# Altium integrated library TI Microcontrollers.IntLib: 3 symbols
Pins are listed as number, name and electrical type; pins without a type are passive.

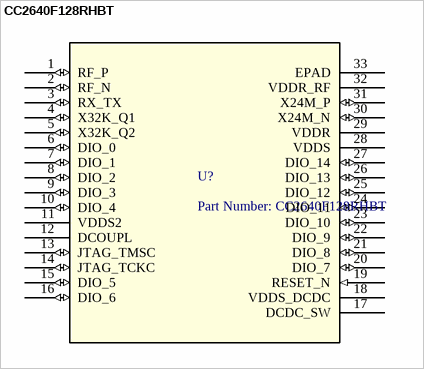
[diagram p0: symbol CC2640F128RHBT]

## CC2640F128RHBT
designator U?, comment Part Number: CC2640F128RHBT
SimpleLink Wireless MCU; Vendor: Texas Instruments; Built_By: EMA_Jessica; Manufacturer_Part_Number: CC2640F128RHBT; Copyright: Copyright (C) 2018 Accelerated Designs. All rights reserved; RefDes: RefDes; Type: DEV; Value: Value
footprint RHB32_3P45X3P45
pins: 1 RF_P (io), 2 RF_N (io), 3 RX_TX (io), 4 X32K_Q1 (io), 5 X32K_Q2 (io), 6 DIO_0 (io), 7 DIO_1 (io), 8 DIO_2 (io), 9 DIO_3 (io), 10 DIO_4 (io), 11 VDDS2 (power), 12 DCOUPL (power), 13 JTAG_TMSC (io), 14 JTAG_TCKC (io), 15 DIO_5 (io), 16 DIO_6 (io), 17 DCDC_SW (power), 18 VDDS_DCDC (power), 19 RESET_N (in), 20 DIO_7 (io), 21 DIO_8 (io), 22 DIO_9 (io), 23 DIO_10 (io), 24 DIO_11 (io), 25 DIO_12 (io), 26 DIO_13 (io), 27 DIO_14 (io), 28 VDDS (power), 29 VDDR (power), 30 X24M_N (io), 31 X24M_P (io), 32 VDDR_RF (power), 33 EPAD


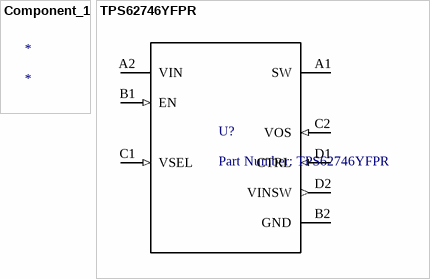
[diagram p1: symbols Component_1 to TPS62746YFPR]

## Component_1
designator *

## TPS62746YFPR
designator U?, comment Part Number: TPS62746YFPR
No Description Available; Alternate_PartNumber: TPS62746YFPT; Vendor: Texas Instruments; Built_By: Texas_Instrument_Team; CompType: IC; Manufacturer_Part_Number: TPS62746YFPR; Copyright: Copyright (C) 2018 Accelerated Designs. All rights reserved; RefDes: RefDes; Type: DEV; Value: Value; Application_BuildNumber: *; SymbolVerison: 2015-11-24; PartNumber: TPS62746YFPR; PackageReference: YFP0008AGAC; MountType: SMT; Manufacturer: Texas Instruments
footprint YFP0008AGAC
pins: A1 SW (power), A2 VIN (power), B1 EN (in), B2 GND (power), C1 VSEL (in), C2 VOS (in), D1 CTRL (in), D2 VINSW (out)